# EAGLE library part LTC1155 (library linear-technology)
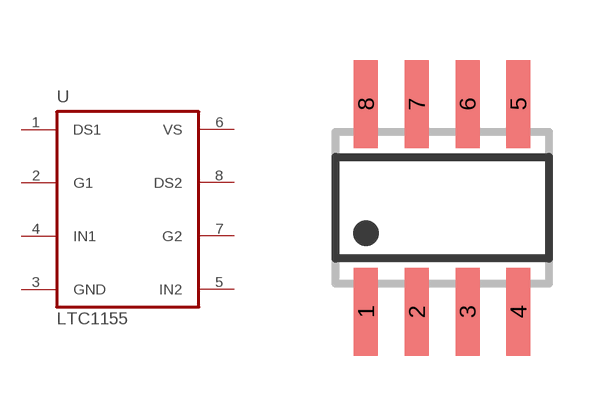
[diagram p16: symbol with the pads of SO08; footprint SO08]

Designator prefix U

## LTC1155  [SO08]
1  DS1
2  G1
3  GND
4  IN1
5  IN2
6  VS
7  G2
8  DS2

## Footprint SO08 (pad centres in mm)
SMALL OUTLINE INTEGRATED CIRCUIT body 3.9 mm/JEDEC MS-012AA
smd 0.6 x 2.2: 1 -1.905,-2.6; 2 -0.635,-2.6; 3 0.635,-2.6; 4 1.905,-2.6; 5 1.905,2.6; 6 0.635,2.6; 7 -0.635,2.6; 8 -1.905,2.6